# Altium schematic symbol library RC0603JR-07120KL.SchLib: 1 symbol
Pins are listed as number, name and electrical type; pins without a type are passive.

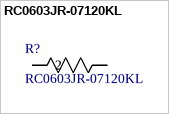
[diagram p0: symbol RC0603JR-07120KL]

## RC0603JR-07120KL
designator R?
Description; Manufacturer_Name: Yageo; Copyright: Copyright (C) 2025 Ultra Librarian. All rights reserved.; Manufacturer_Part_Number: RC0603JR-07120KL
footprint RC0603N_YAG
pins: 1, 2